# Altium schematic symbol library LM334.Schlib: 1 symbol
Pins are listed as number, name and electrical type; pins without a type are passive.

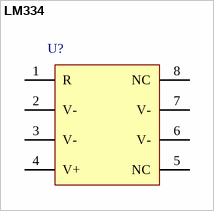
[diagram p0: symbol LM334]

## LM334
designator U?  (value not drawn)
Adj. Current Source
pins: 1 R, 2 V-, 3 V-, 4 V+, 5 NC, 6 V-, 7 V-, 8 NC